# Altium integrated library Nucleo-F439ZI.IntLib: 1 symbol
Pins are listed as number, name and electrical type; pins without a type are passive.

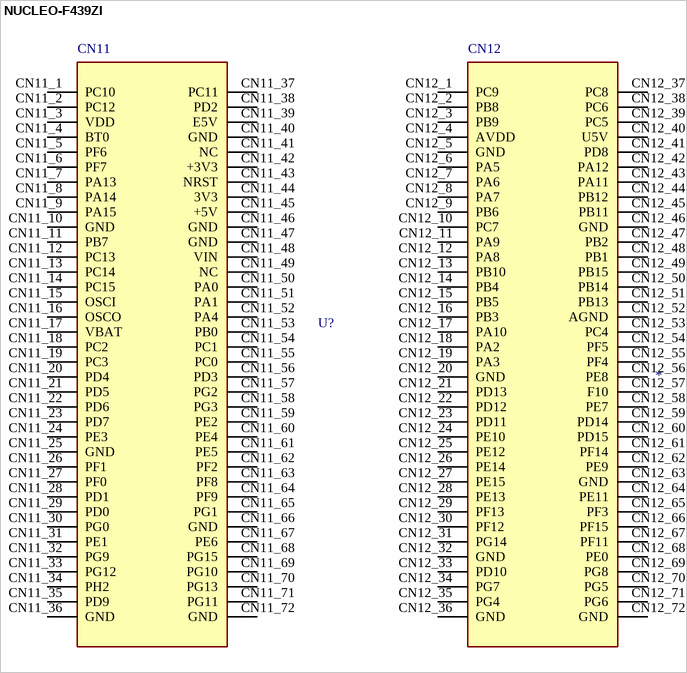
[diagram p0: symbol NUCLEO-F439ZI]

## NUCLEO-F439ZI
designator U?
STM32F429ZI, mbed-Enabled Development Nucleo-144 STM32F4 ARMÂ® CortexÂ®-M4 MCU 32-Bit Embedded Evaluation Board; MP: NUCLEO-F429ZI; Value: *; Availability: Unavailable; Package: None; Price: None
footprint Nucleo-F439ZI
pins: CN11_1 PC10 (power), CN11_2 PC12 (power), CN11_3 VDD (power), CN11_4 BT0 (power), CN11_5 PF6 (power), CN11_6 PF7 (power), CN11_7 PA13 (power), CN11_8 PA14 (power), CN11_9 PA15 (power), CN11_10 GND (power), CN11_11 PB7 (power), CN11_12 PC13 (power), CN11_13 PC14 (power), CN11_14 PC15 (power), CN11_15 OSCI (power), CN11_16 OSCO (power), CN11_17 VBAT (power), CN11_18 PC2 (power), CN11_19 PC3 (power), CN11_20 PD4 (power), CN11_21 PD5 (power), CN11_22 PD6 (power), CN11_23 PD7 (power), CN11_24 PE3 (power), CN11_25 GND (power), CN11_26 PF1 (power), CN11_27 PF0 (power), CN11_28 PD1 (power), CN11_29 PD0 (power), CN11_30 PG0 (power), CN11_31 PE1 (power), CN11_32 PG9 (power), CN11_33 PG12 (power), CN11_34 PH2 (power), CN11_35 PD9 (power), CN11_36 GND (power), CN11_37 PC11 (power), CN11_38 PD2 (power), CN11_39 E5V (power), CN11_40 GND (power), CN11_41 NC (power), CN11_42 +3V3 (power), CN11_43 NRST (power), CN11_44 3V3 (power), CN11_45 +5V (power), CN11_46 GND (power), CN11_47 GND (power), CN11_48 VIN (power), CN11_49 NC (power), CN11_50 PA0 (power), CN11_51 PA1 (power), CN11_52 PA4 (power), CN11_53 PB0 (power), CN11_54 PC1 (power), CN11_55 PC0 (power), CN11_56 PD3 (power), CN11_57 PG2 (power), CN11_58 PG3 (power), CN11_59 PE2 (power), CN11_60 PE4 (power), CN11_61 PE5 (power), CN11_62 PF2 (power), CN11_63 PF8 (power), CN11_64 PF9 (power), CN11_65 PG1 (power), CN11_66 GND (power), CN11_67 PE6 (power), CN11_68 PG15 (power), CN11_69 PG10 (power), CN11_70 PG13 (power), CN11_71 PG11 (power), CN11_72 GND (power), CN12_1 PC9 (power), CN12_2 PB8 (power), CN12_3 PB9 (power), CN12_4 AVDD (power), CN12_5 GND (power), CN12_6 PA5 (power), CN12_7 PA6 (power), CN12_8 PA7 (power), CN12_9 PB6 (power), CN12_10 PC7 (power), CN12_11 PA9 (power), CN12_12 PA8 (power), CN12_13 PB10 (power), CN12_14 PB4 (power), CN12_15 PB5 (power), CN12_16 PB3 (power), CN12_17 PA10 (power), CN12_18 PA2 (power), CN12_19 PA3 (power), CN12_20 GND (power), CN12_21 PD13 (power), CN12_22 PD12 (power), CN12_23 PD11 (power), CN12_24 PE10 (power), CN12_25 PE12 (power), CN12_26 PE14 (power), CN12_27 PE15 (power), CN12_28 PE13 (power), CN12_29 PF13 (power), CN12_30 PF12 (power), CN12_31 PG14 (power), CN12_32 GND (power), CN12_33 PD10 (power), CN12_34 PG7 (power), CN12_35 PG4 (power), CN12_36 GND (power), CN12_37 PC8 (power), CN12_38 PC6 (power), CN12_39 PC5 (power), CN12_40 U5V (power), CN12_41 PD8 (power), CN12_42 PA12 (power), CN12_43 PA11 (power), CN12_44 PB12 (power), CN12_45 PB11 (power), CN12_46 GND (power), CN12_47 PB2 (power), CN12_48 PB1 (power), CN12_49 PB15 (power), CN12_50 PB14 (power), CN12_51 PB13 (power), CN12_52 AGND (power), CN12_53 PC4 (power), CN12_54 PF5 (power), CN12_55 PF4 (power), CN12_56 PE8 (power), CN12_57 F10 (power), CN12_58 PE7 (power), CN12_59 PD14 (power), CN12_60 PD15 (power), CN12_61 PF14 (power), CN12_62 PE9 (power), CN12_63 GND (power), CN12_64 PE11 (power), CN12_65 PF3 (power), CN12_66 PF15 (power), CN12_67 PF11 (power), CN12_68 PE0 (power), CN12_69 PG8 (power), CN12_70 PG5 (power), CN12_71 PG6 (power), CN12_72 GND (power)
text: CN11; CN12